# EAGLE library part WF2549-2WS05S0B01 (library Labops_Lib_AH)
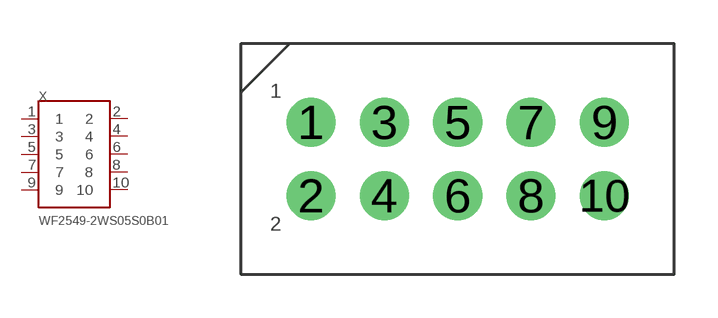
[diagram p77: symbol with the pads of X10_100MIL_2XROW_VERT; footprint X10_100MIL_2XROW_VERT]

Designator prefix X

## WF2549-2WS05S0B01 (DESCRIPTION: X10, 10 Pins, Header, Pitch 2.54 wire to board 2xrows, THT; MFN: WF2549-2WS05S0B01; MFR: WCON; PRICE-1: 0.25; SUPPLIER-1: LCSC)  [X10_100MIL_2XROW_VERT]
1  1
2  2
3  3
4  4
5  5
6  6
7  7
8  8
9  9
10  10

## Footprint X10_100MIL_2XROW_VERT (pad centres in mm)
drill 1.1 pad 1.7: 1 -5.08,1.27; 2 -5.08,-1.27; 3 -2.54,1.27; 4 -2.54,-1.27; 5 0,1.27; 6 0,-1.27; 7 2.54,1.27; 8 2.54,-1.27; 9 5.08,1.27; 10 5.08,-1.27